# Altium schematic symbol library Display.SchLib: 1 symbol
Pins are listed as number, name and electrical type; pins without a type are passive.

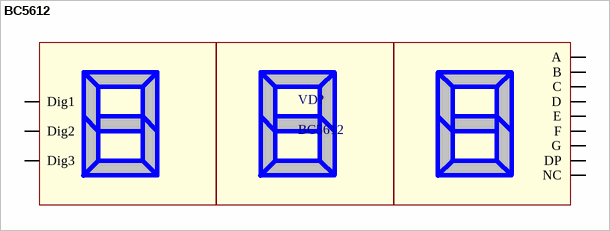
[diagram p0: symbol BC5612]

## BC5612
designator VD?
ComponentDescription: BC5612
footprint BC56-12
pins: 1 E, 2 D, 3 DP, 4 C, 5 G, 6 NC, 7 B, 8 Dig3, 9 Dig2, 10 F, 11 A, 12 Dig1